# Altium schematic symbol library MyLibs_Linear_PSU.SchLib: 9 symbols
Pins are listed as number, name and electrical type; pins without a type are passive.

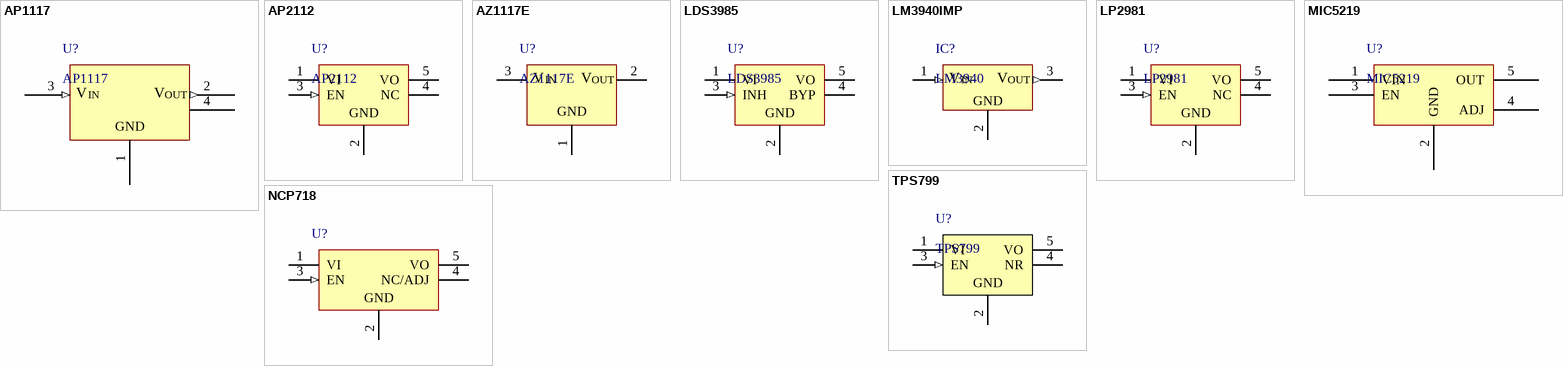
[diagram p0: symbols AP1117 to TPS799]

## AP1117
designator U?
Linear Voltage Regulator IC 1 Output 1A SOT-223-3
pins: 1 GND (power), 2 VOUT (out), 3 VIN (in), 4 TAB
text: V; IN; OUT

## AP2112
designator U?
IC REG LINEAR 600MA SOT23-5
pins: 1 VI (power), 2 GND (power), 3 EN (in), 4 NC, 5 VO (power)

## AZ1117E
designator U?
IC REG LINEAR 1A SOT223
footprint SOT223_N CASE TO GND (SOT223, 4-Leads, Body 6.5x3.5mm, Pitch 2.3mm, Lead Span 7mm, IPC Medium Density)
pins: 1 GND, 2 OUT, 3 IN
text: V

## LDS3985
designator U?
IC REG LINEAR 3.3V 300MA SOT23-5
pins: 1 VI (power), 2 GND (power), 3 INH (in), 4 BYP, 5 VO (power)

## LM3940IMP
designator IC?, comment LM3940
1-A Low-Dropout Regulator for 5-V to 3.3-V Conversion. Package: SOT-223
pins: 1 IN (in), 2 GND (power), 3 OUT (out), 4
text: V

## LP2981
designator U?
IC REG LINEAR 100MA SOT23-5
pins: 1 VI (power), 2 GND (power), 3 EN (in), 4 NC, 5 VO (power)

## MIC5219
designator U?
IC REG LIN POS ADJ 500MA SOT23-5
pins: 1 VIN, 2 GND, 3 EN, 4 ADJ, 5 OUT

## NCP718
designator U?
IC REG LIN 300MA TSOT23-5
pins: 1 VI (power), 2 GND (power), 3 EN (in), 4 NC/ADJ, 5 VO (power)

## TPS799
designator U?
IC REG LINEAR 3.3V 200MA SOT23-5
pins: 1 VI (power), 2 GND (power), 3 EN (in), 4 NR, 5 VO (power)